# Altium footprint library микросхемы прочие.PcbLib: 30 footprints (part 2 of 2)
Each footprint in its own frame and in the unit in brackets; x right, y up, seen from the top. Pads: shape width x height; smd on the part's side, far side on the other; paste and mask are expansions set on the pad; w line width, h text height; cw(c..) or ccw(c..) is an arc to the next point about the centre after c.
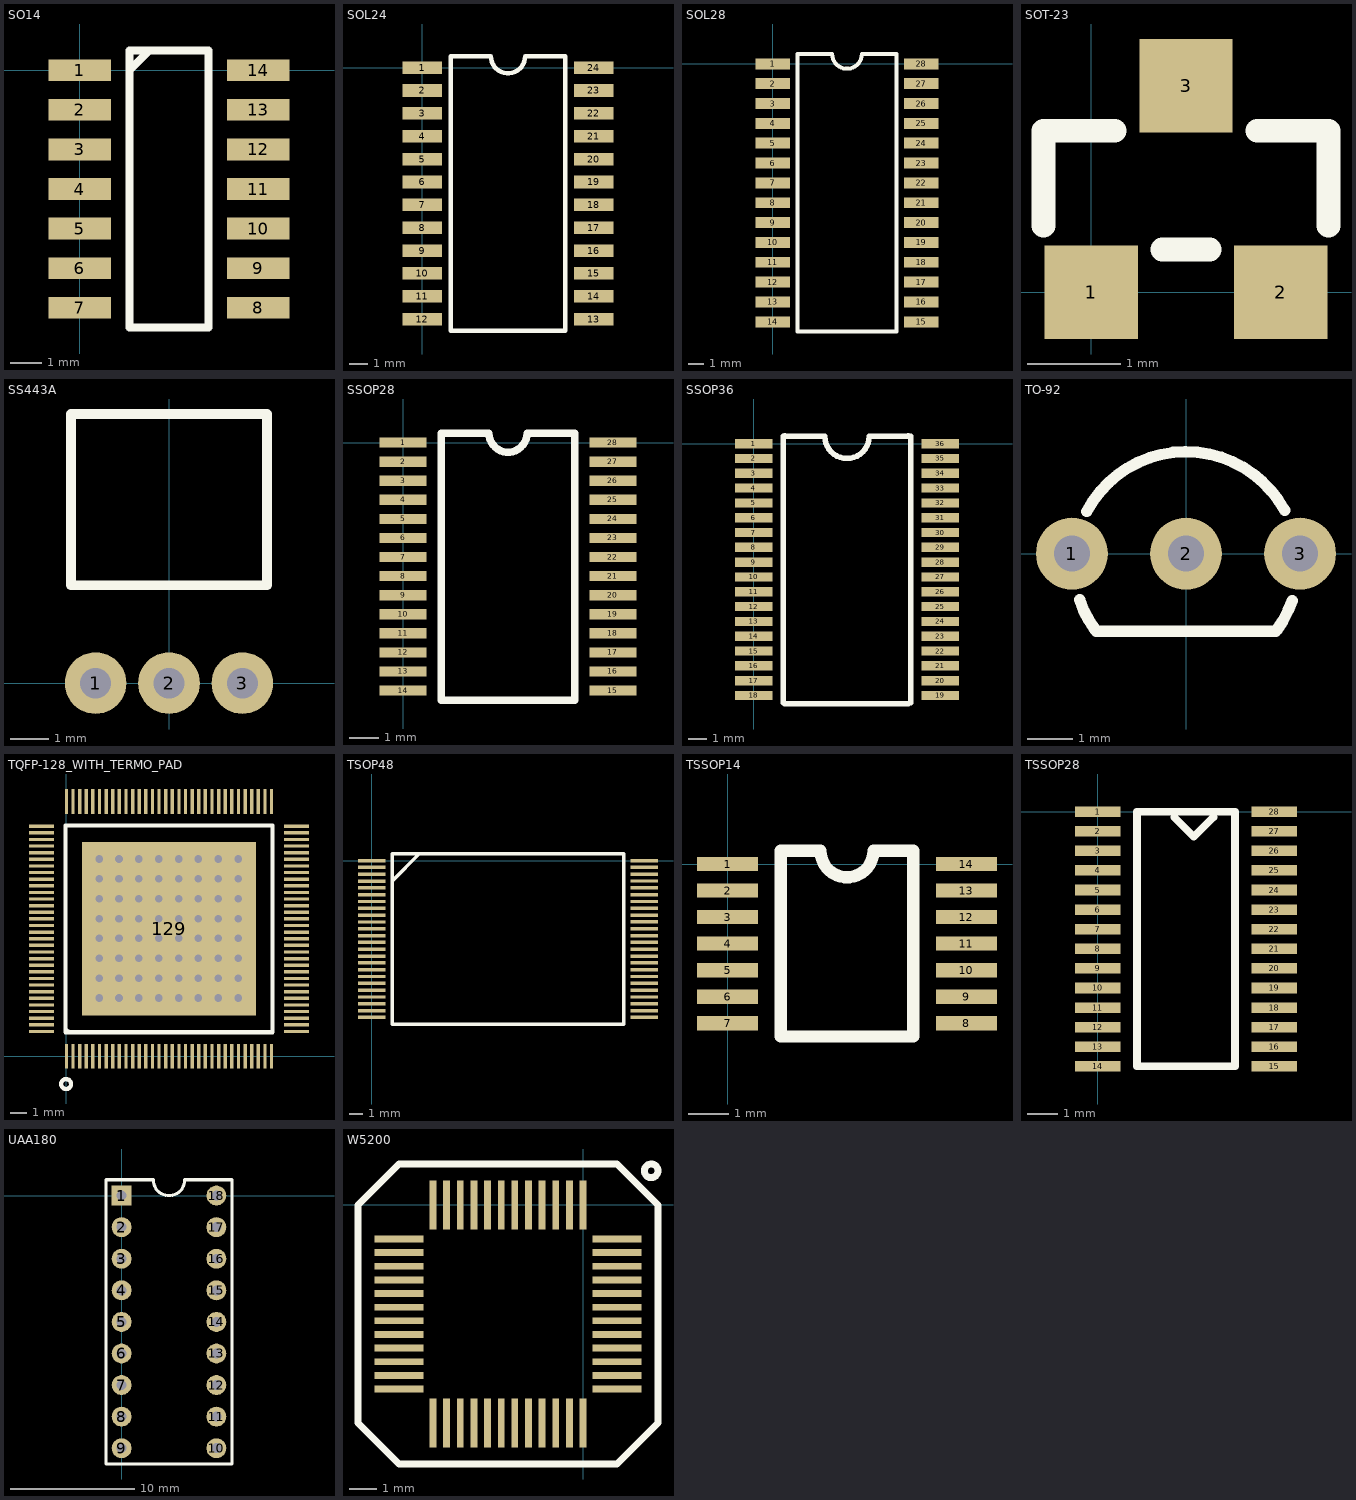
[diagram p1: the footprints below, top view; thin cyan lines are the x and y axes]

## SO14 [mm]
pads (14):
  rect 2x0.7 smd: 1(0,0) 2(0,-1.27) 3(0,-2.54) 4(0,-3.81) 5(0,-5.08) 6(0,-6.35) 7(0,-7.62) 8(5.715,-7.62) 9(5.715,-6.35) 10(5.715,-5.08) 11(5.715,-3.81) 12(5.715,-2.54) 13(5.715,-1.27) 14(5.715,0)
Top Overlay:
  lines w0.254: 1.587,0 2.222,0.635 ; 1.587,-8.255 1.587,0.635 4.127,0.635 4.127,-8.255 1.587,-8.255

## SOL24 [mm]
pads (24):
  rect 2.2x0.7 smd: 1(0,0) 2(0,-1.27) 3(0,-2.54) 4(0,-3.81) 5(0,-5.08) 6(0,-6.35) 7(0,-7.62) 8(0,-8.89) 9(0,-10.16) 10(0,-11.43) 11(0,-12.7) 12(0,-13.97) 13(9.525,-13.97) 14(9.525,-12.7) 15(9.525,-11.43) 16(9.525,-10.16) 17(9.525,-8.89) 18(9.525,-7.62) 19(9.525,-6.35) 20(9.525,-5.08) 21(9.525,-3.81) 22(9.525,-2.54) 23(9.525,-1.27) 24(9.525,0)
Top Overlay:
  lines w0.254: 3.746,0.635 1.587,0.635 1.587,-14.605 7.938,-14.605 7.938,0.635 5.715,0.635 cw(c4.763,0.635) 3.81,0.635

## SOL28 [mm]
pads (28):
  rect 2.2x0.7 smd: 1(0,0) 2(0,-1.27) 3(0,-2.54) 4(0,-3.81) 5(0,-5.08) 6(0,-6.35) 7(0,-7.62) 8(0,-8.89) 9(0,-10.16) 10(0,-11.43) 11(0,-12.7) 12(0,-13.97) 13(0,-15.24) 14(0,-16.51) 15(9.525,-16.51) 16(9.525,-15.24) 17(9.525,-13.97) 18(9.525,-12.7) 19(9.525,-11.43) 20(9.525,-10.16) 21(9.525,-8.89) 22(9.525,-7.62) 23(9.525,-6.35) 24(9.525,-5.08) 25(9.525,-3.81) 26(9.525,-2.54) 27(9.525,-1.27) 28(9.525,0)
Top Overlay:
  lines w0.254: 3.746,0.635 1.587,0.635 1.587,-17.145 7.938,-17.145 7.938,0.635 5.715,0.635 cw(c4.763,0.635) 3.81,0.635

## SOT-23 [mm]
pads (3):
  rect 1x1 smd: 1(0,0) 2(2.032,0) 3(1.016,2.21)
Top Overlay:
  lines w0.254: -0.508,0.711 -0.508,1.727 0.254,1.727 ; 0.762,0.457 1.27,0.457 ; 1.778,1.727 2.54,1.727 2.54,0.711

## SS443A [mm]
pads (3):
  round 1.6 hole 0.8: 1(-1.905,0) 2(0,0) 3(1.905,0)
Top Overlay:
  lines w0.254: -2.54,2.54 2.54,2.54 2.54,6.985 -2.54,6.985 -2.54,2.54

## SSOP28 [mm]
pads (28):
  rect 1.6x0.35 smd: 1(0,0) 2(0,-0.65) 3(0,-1.3) 4(0,-1.95) 5(0,-2.6) 6(0,-3.25) 7(0,-3.9) 8(0,-4.55) 9(0,-5.2) 10(0,-5.85) 11(0,-6.5) 12(0,-7.15) 13(0,-7.8) 14(0,-8.45) 15(7.15,-8.45) 16(7.15,-7.8) 17(7.15,-7.15) 18(7.15,-6.5) 19(7.15,-5.85) 20(7.15,-5.2) 21(7.15,-4.55) 22(7.15,-3.9) 23(7.15,-3.25) 24(7.15,-2.6) 25(7.15,-1.95) 26(7.15,-1.3) 27(7.15,-0.65) 28(7.15,0)
Top Overlay:
  lines w0.254: 1.3,-8.775 1.3,0.325 2.925,0.325 ccw(c3.575,0.325) 4.225,0.325 5.85,0.325 5.85,-8.775 1.3,-8.775

## SSOP36 [mm]
pads (36):
  rect 2x0.5 smd: 1(0,0) 2(0,-0.8) 3(0,-1.6) 4(0,-2.4) 5(0,-3.2) 6(0,-4) 7(0,-4.8) 8(0,-5.6) 9(0,-6.4) 10(0,-7.2) 11(0,-8) 12(0,-8.8) 13(0,-9.6) 14(0,-10.4) 15(0,-11.2) 16(0,-12) 17(0,-12.8) 18(0,-13.6) 19(10.07,-13.6) 20(10.07,-12.8) 21(10.07,-12) 22(10.07,-11.2) 23(10.07,-10.4) 24(10.07,-9.6) 25(10.07,-8.8) 26(10.07,-8) 27(10.07,-7.2) 28(10.07,-6.4) 29(10.07,-5.6) 30(10.07,-4.8) 31(10.07,-4) 32(10.07,-3.2) 33(10.07,-2.4) 34(10.07,-1.6) 35(10.07,-0.8) 36(10.07,0)
Top Overlay:
  lines w0.3: 1.6,-14 1.6,0.4 ; 1.668,-14.056 8.346,-14.056 ; 1.668,0.413 3.835,0.4 ccw(c5.035,0.4) 6.235,0.4 8.346,0.413 ; 8.47,-14 8.47,0.4

## TO-92 [mm]
pads (3):
  round 1.6 hole 0.8: 1(-2.54,0) 2(0,0) 3(2.54,0)
Top Overlay:
  lines w0.254: -2.369,-1.027 ccw(c0,-0.23) -2.015,-1.71 ; -2.209,0.94 cw(c0,-0.23) 2.197,0.963 ; -2,-1.73 2,-1.73 ; 2.028,-1.692 ccw(c0,-0.23) 2.362,-1.048
3D body "ALSRobot-TO-92W.SLDPRT": height 9.7, standoff -1.6, extent -2.765,-1.55 2.765,2.55

## TQFP-128_WITH_TERMO_PAD [mm]
pads (129):
  rect 0.2x1.5 smd: 1(0,0) 2(0.4,0) 3(0.8,0) 4(1.2,0) 5(1.6,0) 6(2,0) 7(2.4,0) 8(2.8,0) 9(3.2,0) 10(3.6,0) 11(4,0) 12(4.4,0) 13(4.8,0) 14(5.2,0) 15(5.6,0) 16(6,0) 17(6.4,0) 18(6.8,0) 19(7.2,0) 20(7.6,0) 21(8,0) 22(8.4,0) 23(8.8,0) 24(9.2,0) 25(9.6,0) 26(10,0) 27(10.4,0) 28(10.8,0) 29(11.2,0) 30(11.6,0) 31(12,0) 32(12.4,0) 65(12.4,15.4) 66(12,15.4) 67(11.6,15.4) 68(11.2,15.4) 69(10.8,15.4) 70(10.4,15.4) 71(10,15.4) 72(9.6,15.4) 73(9.2,15.4) 74(8.8,15.4) 75(8.4,15.4) 76(8,15.4) 77(7.6,15.4) 78(7.2,15.4) 79(6.8,15.4) 80(6.4,15.4) 81(6,15.4) 82(5.6,15.4) 83(5.2,15.4) 84(4.8,15.4) 85(4.4,15.4) 86(4,15.4) 87(3.6,15.4) 88(3.2,15.4) 89(2.8,15.4) 90(2.4,15.4) 91(2,15.4) 92(1.6,15.4) 93(1.2,15.4) 94(0.8,15.4) 95(0.4,15.4) 96(0,15.4)
  rect 1.5x0.2 smd: 33(13.9,1.5) 34(13.9,1.9) 35(13.9,2.3) 36(13.9,2.7) 37(13.9,3.1) 38(13.9,3.5) 39(13.9,3.9) 40(13.9,4.3) 41(13.9,4.7) 42(13.9,5.1) 43(13.9,5.5) 44(13.9,5.9) 45(13.9,6.3) 46(13.9,6.7) 47(13.9,7.1) 48(13.9,7.5) 49(13.9,7.9) 50(13.9,8.3) 51(13.9,8.7) 52(13.9,9.1) 53(13.9,9.5) 54(13.9,9.9) 55(13.9,10.3) 56(13.9,10.7) 57(13.9,11.1) 58(13.9,11.5) 59(13.9,11.9) 60(13.9,12.3) 61(13.9,12.7) 62(13.9,13.1) 63(13.9,13.5) 64(13.9,13.9) 97(-1.5,13.9) 98(-1.5,13.5) 99(-1.5,13.1) 100(-1.5,12.7) 101(-1.5,12.3) 102(-1.5,11.9) 103(-1.5,11.5) 104(-1.5,11.1) 105(-1.5,10.7) 106(-1.5,10.3) 107(-1.5,9.9) 108(-1.5,9.5) 109(-1.5,9.1) 110(-1.5,8.7) 111(-1.5,8.3) 112(-1.5,7.9) 113(-1.5,7.5) 114(-1.5,7.1) 115(-1.5,6.7) 116(-1.5,6.3) 117(-1.5,5.9) 118(-1.5,5.5) 119(-1.5,5.1) 120(-1.5,4.7) 121(-1.5,4.3) 122(-1.5,3.9) 123(-1.5,3.5) 124(-1.5,3.1) 125(-1.5,2.7) 126(-1.5,2.3) 127(-1.5,1.9) 128(-1.5,1.5)
  rect 10.5x10.5 smd: 129(6.2,7.7)
via 4.38,7.12 diameter 1.016 hole 0.457
via 4.38,8.32 diameter 1.016 hole 0.457
via 5.58,7.12 diameter 1.016 hole 0.457
via 5.58,8.32 diameter 1.016 hole 0.457
via 4.38,9.52 diameter 1.016 hole 0.457
via 4.38,10.72 diameter 1.016 hole 0.457
via 4.38,11.92 diameter 1.016 hole 0.457
via 5.58,9.52 diameter 1.016 hole 0.457
via 5.58,10.72 diameter 1.016 hole 0.457
via 5.58,11.92 diameter 1.016 hole 0.457
via 4.38,3.52 diameter 1.016 hole 0.457
via 4.38,4.72 diameter 1.016 hole 0.457
via 4.38,5.92 diameter 1.016 hole 0.457
via 5.58,3.52 diameter 1.016 hole 0.457
via 5.58,4.72 diameter 1.016 hole 0.457
via 5.58,5.92 diameter 1.016 hole 0.457
via 6.78,7.12 diameter 1.016 hole 0.457
via 7.98,7.12 diameter 1.016 hole 0.457
via 9.18,7.12 diameter 1.016 hole 0.457
via 10.38,7.12 diameter 1.016 hole 0.457
via 6.78,8.32 diameter 1.016 hole 0.457
via 7.98,8.32 diameter 1.016 hole 0.457
via 9.18,8.32 diameter 1.016 hole 0.457
via 10.38,8.32 diameter 1.016 hole 0.457
via 1.98,7.12 diameter 1.016 hole 0.457
via 3.18,7.12 diameter 1.016 hole 0.457
via 1.98,8.32 diameter 1.016 hole 0.457
via 3.18,8.32 diameter 1.016 hole 0.457
via 6.78,9.52 diameter 1.016 hole 0.457
via 6.78,10.72 diameter 1.016 hole 0.457
via 6.78,11.92 diameter 1.016 hole 0.457
via 7.98,9.52 diameter 1.016 hole 0.457
via 7.98,10.72 diameter 1.016 hole 0.457
via 7.98,11.92 diameter 1.016 hole 0.457
via 9.18,9.52 diameter 1.016 hole 0.457
via 9.18,10.72 diameter 1.016 hole 0.457
via 9.18,11.92 diameter 1.016 hole 0.457
via 10.38,9.52 diameter 1.016 hole 0.457
via 10.38,10.72 diameter 1.016 hole 0.457
via 10.38,11.92 diameter 1.016 hole 0.457
via 6.78,3.52 diameter 1.016 hole 0.457
via 6.78,4.72 diameter 1.016 hole 0.457
via 6.78,5.92 diameter 1.016 hole 0.457
via 7.98,3.52 diameter 1.016 hole 0.457
via 7.98,4.72 diameter 1.016 hole 0.457
via 7.98,5.92 diameter 1.016 hole 0.457
via 9.18,3.52 diameter 1.016 hole 0.457
via 9.18,4.72 diameter 1.016 hole 0.457
via 9.18,5.92 diameter 1.016 hole 0.457
via 10.38,3.52 diameter 1.016 hole 0.457
via 10.38,4.72 diameter 1.016 hole 0.457
via 10.38,5.92 diameter 1.016 hole 0.457
via 1.98,9.52 diameter 1.016 hole 0.457
via 1.98,10.72 diameter 1.016 hole 0.457
via 1.98,11.92 diameter 1.016 hole 0.457
via 3.18,9.52 diameter 1.016 hole 0.457
via 3.18,10.72 diameter 1.016 hole 0.457
via 3.18,11.92 diameter 1.016 hole 0.457
via 1.98,3.52 diameter 1.016 hole 0.457
via 1.98,4.72 diameter 1.016 hole 0.457
via 1.98,5.92 diameter 1.016 hole 0.457
via 3.18,3.52 diameter 1.016 hole 0.457
via 3.18,4.72 diameter 1.016 hole 0.457
via 3.18,5.92 diameter 1.016 hole 0.457
Top Overlay:
  circle w0.255: c-0.02,-1.68 r0.3
  lines w0.255: -0.05,1.65 0.15,1.45 ; -0.05,1.45 12.45,1.45 12.45,13.95 -0.05,13.95 -0.05,1.45

## TSOP48 [mm]
pads (48):
  rect 2x0.25 smd: 1(0,0) 2(0,-0.5) 3(0,-1) 4(0,-1.5) 5(0,-2) 6(0,-2.5) 7(0,-3) 8(0,-3.5) 9(0,-4) 10(0,-4.5) 11(0,-5) 12(0,-5.5) 13(0,-6) 14(0,-6.5) 15(0,-7) 16(0,-7.5) 17(0,-8) 18(0,-8.5) 19(0,-9) 20(0,-9.5) 21(0,-10) 22(0,-10.5) 23(0,-11) 24(0,-11.5) 25(20,-11.5) 26(20,-11) 27(20,-10.5) 28(20,-10) 29(20,-9.5) 30(20,-9) 31(20,-8.5) 32(20,-8) 33(20,-7.5) 34(20,-7) 35(20,-6.5) 36(20,-6) 37(20,-5.5) 38(20,-5) 39(20,-4.5) 40(20,-4) 41(20,-3.5) 42(20,-3) 43(20,-2.5) 44(20,-2) 45(20,-1.5) 46(20,-1) 47(20,-0.5) 48(20,0)
Top Overlay:
  lines w0.254: 1.5,-1.5 3.5,0.5 ; 1.5,-12 18.5,-12 18.5,0.5 1.5,0.5 1.5,-12

## TSSOP14 [mm]
pads (14):
  rect 1.5x0.35 smd: 1(0,0) 2(0,-0.65) 3(0,-1.3) 4(0,-1.95) 5(0,-2.6) 6(0,-3.25) 7(0,-3.9) 8(5.85,-3.9) 9(5.85,-3.25) 10(5.85,-2.6) 11(5.85,-1.95) 12(5.85,-1.3) 13(5.85,-0.65) 14(5.85,0)
Top Overlay:
  lines w0.3: 1.3,-4.225 4.55,-4.225 4.55,0.325 3.575,0.325 cw(c2.925,0.325) 2.275,0.325 1.3,0.325 1.3,-4.225

## TSSOP28 [mm]
pads (28):
  rect 1.5x0.35 smd: 1(0,0) 2(0,-0.65) 3(0,-1.3) 4(0,-1.95) 5(0,-2.6) 6(0,-3.25) 7(0,-3.9) 8(0,-4.55) 9(0,-5.2) 10(0,-5.85) 11(0,-6.5) 12(0,-7.15) 13(0,-7.8) 14(0,-8.45) 15(5.85,-8.45) 16(5.85,-7.8) 17(5.85,-7.15) 18(5.85,-6.5) 19(5.85,-5.85) 20(5.85,-5.2) 21(5.85,-4.55) 22(5.85,-3.9) 23(5.85,-3.25) 24(5.85,-2.6) 25(5.85,-1.95) 26(5.85,-1.3) 27(5.85,-0.65) 28(5.85,0)
Top Overlay:
  lines w0.254: 2.535,-0.185 3.185,-0.835 3.835,-0.185 ; 1.3,-8.45 1.3,0 4.55,0 4.55,-8.45 1.3,-8.45
3D body "User Library-ADM3311EARUZ.SLDPRT": height 1.15, standoff 0.01, extent -0.279,-9.066 6.121,0.634

## UAA180 [mm]
pads (18):
  rect 1.6x1.6 hole 0.8: 1(0,0)
  round 1.6 hole 0.8: 2(0,-2.54) 3(0,-5.08) 4(0,-7.62) 5(0,-10.16) 6(0,-12.7) 7(0,-15.24) 8(0,-17.78) 9(0,-20.32) 10(7.62,-20.32) 11(7.62,-17.78) 12(7.62,-15.24) 13(7.62,-12.7) 14(7.62,-10.16) 15(7.62,-7.62) 16(7.62,-5.08) 17(7.62,-2.54) 18(7.62,0)
Top Overlay:
  lines w0.254: -1.27,-21.59 8.89,-21.59 8.89,1.27 5.08,1.27 cw(c3.81,1.27) 2.54,1.27 -1.27,1.27 -1.27,-21.59

## W5200 [mm]
pads (48):
  rect 0.25x1.8 smd: 1(0,0) 2(-0.5,0) 3(-1,0) 4(-1.5,0) 5(-2,0) 6(-2.5,0) 7(-3,0) 8(-3.5,0) 9(-4,0) 10(-4.5,0) 11(-5,0) 12(-5.5,0) 25(-5.5,-8) 26(-5,-8) 27(-4.5,-8) 28(-4,-8) 29(-3.5,-8) 30(-3,-8) 31(-2.5,-8) 32(-2,-8) 33(-1.5,-8) 34(-1,-8) 35(-0.5,-8) 36(0,-8)
  rect 1.8x0.25 smd: 13(-6.75,-1.25) 14(-6.75,-1.75) 15(-6.75,-2.25) 16(-6.75,-2.75) 17(-6.75,-3.25) 18(-6.75,-3.75) 19(-6.75,-4.25) 20(-6.75,-4.75) 21(-6.75,-5.25) 22(-6.75,-5.75) 23(-6.75,-6.25) 24(-6.75,-6.75) 37(1.25,-6.75) 38(1.25,-6.25) 39(1.25,-5.75) 40(1.25,-5.25) 41(1.25,-4.75) 42(1.25,-4.25) 43(1.25,-3.75) 44(1.25,-3.25) 45(1.25,-2.75) 46(1.25,-2.25) 47(1.25,-1.75) 48(1.25,-1.25)
Top Overlay:
  circle w0.254: c2.5,1.25 r0.25
  lines w0.254: -8.25,-8 -8.25,0 -6.75,1.5 1.25,1.5 2.75,0 2.75,-8 1.25,-9.5 -6.75,-9.5 -8.25,-8